# Altium footprint library Resistors_THT.PcbLib: 5 footprints
Each footprint in its own frame and in the unit in brackets; x right, y up, seen from the top. Pads: shape width x height; smd on the part's side, far side on the other; paste and mask are expansions set on the pad; w line width, h text height; cw(c..) or ccw(c..) is an arc to the next point about the centre after c.
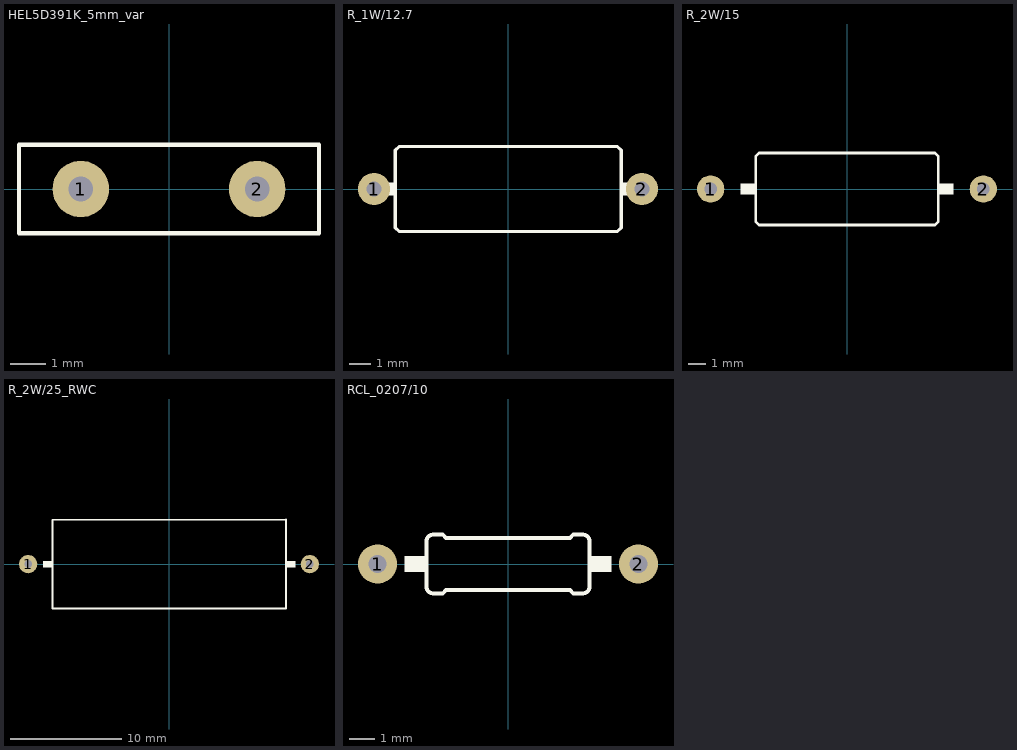
[diagram p0: the footprints below, top view; thin cyan lines are the x and y axes]

## HEL5D391K_5mm_var [mm]
pads (2):
  round 1.6 hole 0.7: 1(-2.5,0) 2(2.5,0)
Top Overlay:
  lines w0.125: -4.25,-1.25 4.25,-1.25 4.25,1.25 -4.25,1.25 -4.25,-1.25
3D body: height 1.57, standoff -11, extent -4,-1.25 4,1.26

## R_1W/12.7 [mil]
pads (2):
  round 60 hole 27.56: 1(-250,0) 2(250,0)
Top Overlay:
  rectangle: 211.22,-12 226.38,12
  region: -210.43,12 -226.38,12 -226.38,-12 -210.43,-12
  lines w6: -203.27,-79.37 -210.43,-72.2 -210.43,72.2 -203.27,79.37 ; -202.48,-79.37 204.06,-79.37 211.22,-72.2 211.22,72.2 204.06,79.37 -202.48,79.37
3D body: height 177.95, standoff -78.74, extent -264.76,-88.58 264.77,88.59

## R_2W/15 [mil]
pads (2):
  round 60 hole 27.56: 1(-300,0) 2(300,0)
Top Overlay:
  region: -200.59,12 -234.59,12 -234.59,-12 -200.59,-12
  rectangle: 200.59,-12 234.59,12
  lines w6: -200.59,-72.2 -200.59,72.2 -193.43,79.37 193.43,79.37 200.59,72.2 200.59,-72.2 193.43,-79.37 -193.43,-79.37 -200.59,-72.2
3D body: height 196.85, standoff -118.11, extent -315.75,-78.74 315.75,78.74

## R_2W/25_RWC [mil]
pads (2):
  round 65 hole 27.56: 1(-500,0) 2(500,0)
Top Overlay:
  region: -413.83,11.81 -447.83,11.81 -447.83,-12.19 -413.83,-12.19
  rectangle: 415.55,-12 449.55,12
  lines w6: -413.39,-157.48 -413.39,157.29 415.55,158.41 415.55,-157.48 -413.39,-157.48
3D body: height 237.4, standoff -78.74, extent -515.94,-118.5 515.95,118.51

## RCL_0207/10 [mil]
pads (2):
  round 60 hole 27.56: 1(-200,0) 2(200,0)
Top Overlay:
  rectangle: -159,-12 -125,12
  rectangle: 125,-12 159,12
  lines w6: -125,-35 ccw(c-115,-35) -115,-45 -100,-45 -95,-40 95,-40 100,-45 115,-45 ccw(c115,-35) 125,-35 125,35 ccw(c115,35) 115,45 100,45 95,40 -95,40 -100,45 -115,45 ccw(c-115,35) -125,35 -125,-35
3D body: height 115.5, standoff -100, extent -212,-46 212,45